# EAGLE library part AQV101AZ (library AQV101AZ)
Solid State Relays - PCB Mount 40v 700mA DIP Form A Norm-Open Source: Datasheet <https://industry.panasonic.com/ac/cdn/e/control/relay/photomos/catalog/semi_eng_hf1a_aqv10_20.pdf>
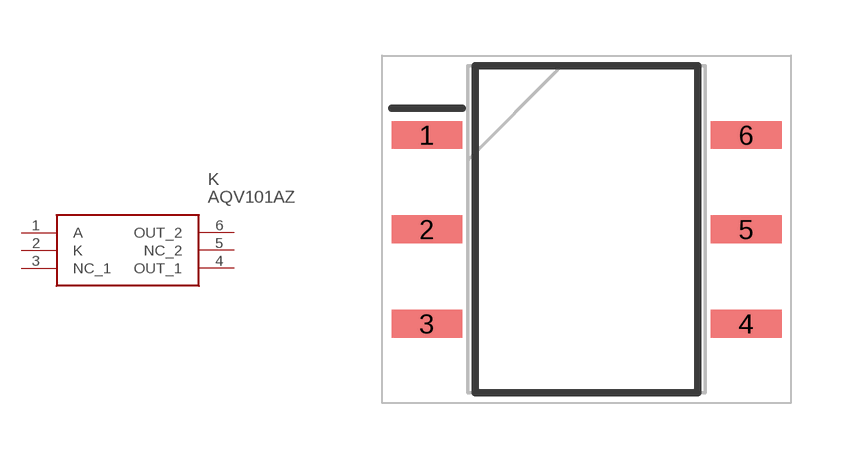
[diagram p0: symbol with the pads of SOP254P960X390-6N; footprint SOP254P960X390-6N]

Designator prefix K

## AQV101AZ (Description: Solid State Relays - PCB Mount 40v 700mA DIP Form A Norm-Open; Height: 3.9mm; Manufacturer_Name: Panasonic; Manufacturer_Part_Number: AQV101AZ; Mouser_Part_Number: 769-AQV101AZ; Mouser_Price-Stock: https://www.mouser.co.uk/ProductDetail/Panasonic-Industrial-Devices/AQV101AZ?qs=tR16lFwwUU9E2ZzN3WgHBg%3D%3D)  [SOP254P960X390-6N]
1  A
2  K
3  NC_1
4  OUT_1
5  NC_2
6  OUT_2

## Footprint SOP254P960X390-6N (pad centres in mm)
6-Pin PDIP SMD_1
smd 1.9 x 0.75: 1 -4.3,2.54; 2 -4.3,0; 3 -4.3,-2.54; 4 4.3,-2.54; 5 4.3,0; 6 4.3,2.54